# Altium schematic symbol library IND,3.9nH,750mA,Wirewound,SMD.Schlib: 1 symbol
Pins are listed as number, name and electrical type; pins without a type are passive.

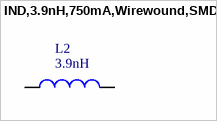
[diagram p0: symbol IND,3.9nH,750mA,Wirewound,SMD]

## IND,3.9nH,750mA,Wirewound,SMD
designator L2, comment 3.9nH
3.9 nH Unshielded Drum Core, Wirewound Inductor 750 mA 70mOhm Max 0402 (1005 Metric)
pins: 1, 2